# EAGLE library part WEACT_STM32G431COREBOARD (library _mtvl.core-board)
WeActStudio.STM32G431CoreBoard WeActStudio.STM32G431CoreBoard <https://gitee.com/WeAct-TC/WeActStudio.STM32G431CoreBoard>
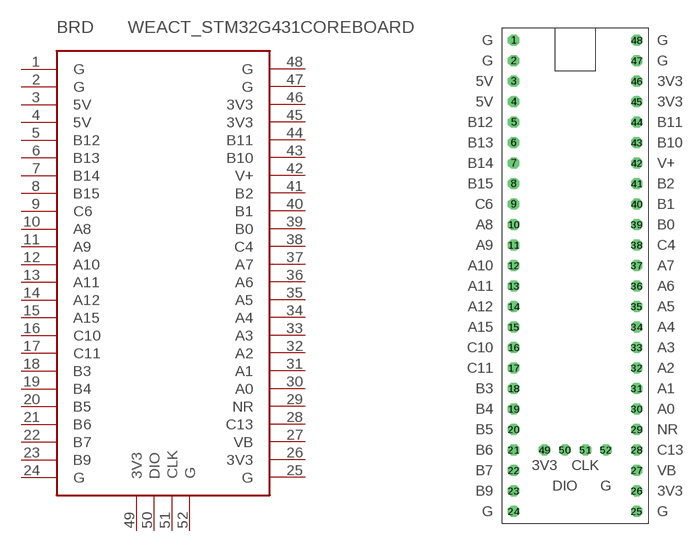
[diagram p0: symbol with the pads of WEACTSTUDIO.STM32G431COREBOARD_LONG; footprint WEACTSTUDIO.STM32G431COREBOARD_LONG]

Designator prefix BRD

## WEACT_STM32G431COREBOARD-LONG  [WEACTSTUDIO.STM32G431COREBOARD_LONG]
1  G  sup
2  G  sup
3  5V  sup
4  5V  sup
5  B12
6  B13
7  B14
8  B15
9  C6
10  A8
11  A9
12  A10
13  A11
14  A12
15  A15
16  C10
17  C11
18  B3
19  B4
20  B5
21  B6
22  B7
23  B9
24  G  sup
25  G  sup
26  3V3  sup
27  VB  sup
28  C13
29  NR
30  A0
31  A1
32  A2
33  A3
34  A4
35  A5
36  A6
37  A7
38  C4
39  B0
40  B1
41  B2
42  V+  sup
43  B10
44  B11
45  3V3  sup
46  3V3  sup
47  G  sup
48  G  sup
49  3V3  sup
50  DIO  sup
51  CLK  sup
52  G  sup

## Footprint WEACTSTUDIO.STM32G431COREBOARD_LONG (pad centres in mm)
WeActStudio.STM32G431CoreBoard_long WeActStudio.STM32G431CoreBoard <https://gitee.com/WeAct-TC/WeActStudio.STM32G431CoreBoard>
drill 0.9 octagon: 1 -7.62,29.21; 2 -7.62,26.67; 3 -7.62,24.13; 4 -7.62,21.59; 5 -7.62,19.05; 6 -7.62,16.51; 7 -7.62,13.97; 8 -7.62,11.43; 9 -7.62,8.89; 10 -7.62,6.35; 11 -7.62,3.81; 12 -7.62,1.27; 13 -7.62,-1.27; 14 -7.62,-3.81; 15 -7.62,-6.35; 16 -7.62,-8.89; 17 -7.62,-11.43; 18 -7.62,-13.97; 19 -7.62,-16.51; 20 -7.62,-19.05; 21 -7.62,-21.59; 22 -7.62,-24.13; 23 -7.62,-26.67; 24 -7.62,-29.21; 25 7.62,-29.21; 26 7.62,-26.67; 27 7.62,-24.13; 28 7.62,-21.59; 29 7.62,-19.05; 30 7.62,-16.51; 31 7.62,-13.97; 32 7.62,-11.43; 33 7.62,-8.89; 34 7.62,-6.35; 35 7.62,-3.81; 36 7.62,-1.27; 37 7.62,1.27; 38 7.62,3.81; 39 7.62,6.35; 40 7.62,8.89; 41 7.62,11.43; 42 7.62,13.97; 43 7.62,16.51; 44 7.62,19.05; 45 7.62,21.59; 46 7.62,24.13; 47 7.62,26.67; 48 7.62,29.21; 49 -3.81,-21.59; 50 -1.27,-21.59; 51 1.27,-21.59; 52 3.81,-21.59